# Altium footprint library S10B-PHDSS.PcbLib: 1 footprints
Each footprint in its own frame and in the unit in brackets; x right, y up, seen from the top. Pads: shape width x height; smd on the part's side, far side on the other; paste and mask are expansions set on the pad; w line width, h text height; cw(c..) or ccw(c..) is an arc to the next point about the centre after c.
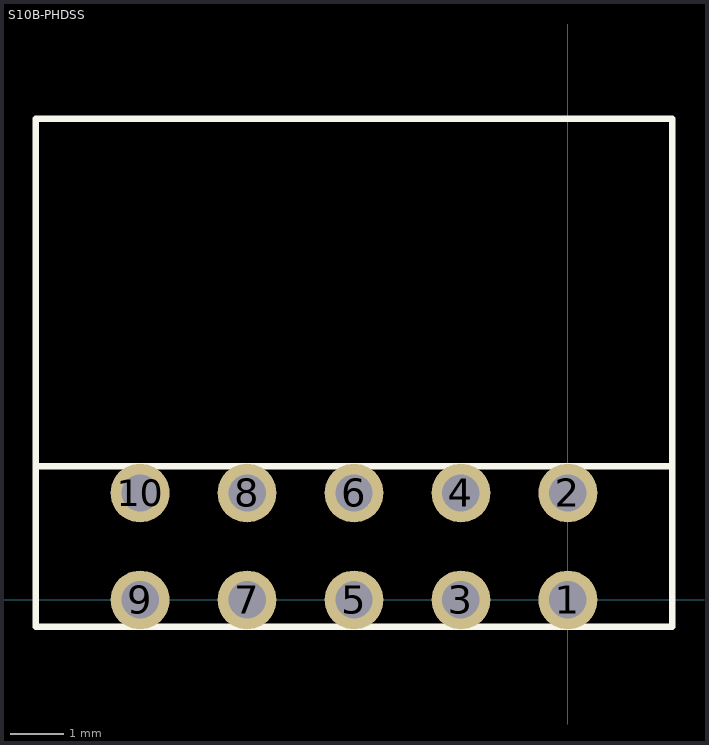
[diagram p0: the footprint, top view; thin cyan lines are the x and y axes]

## S10B-PHDSS [mm] "JST 10 pin dual row right angle connector"
pads (10):
  round 1.1 hole 0.7: 1(0,0) 2(0,2) 3(-2,0) 4(-2,2) 5(-4,0) 6(-4,2) 7(-6,0) 8(-6,2) 9(-8,0) 10(-8,2)
Top Overlay:
  lines w0.12: -9.95,2.5 1.95,2.5 ; -9.95,-0.5 1.95,-0.5 1.95,9 -9.95,9 -9.95,-0.5
3D body "S10B-PHDSS.stp": height 5, standoff -3, extent -9.95,-0.5 1.95,9